# Altium footprint library New_Parts.PcbLib: 6 footprints
Each footprint in its own frame and in the unit in brackets; x right, y up, seen from the top. Pads: shape width x height; smd on the part's side, far side on the other; paste and mask are expansions set on the pad; w line width, h text height; cw(c..) or ccw(c..) is an arc to the next point about the centre after c.
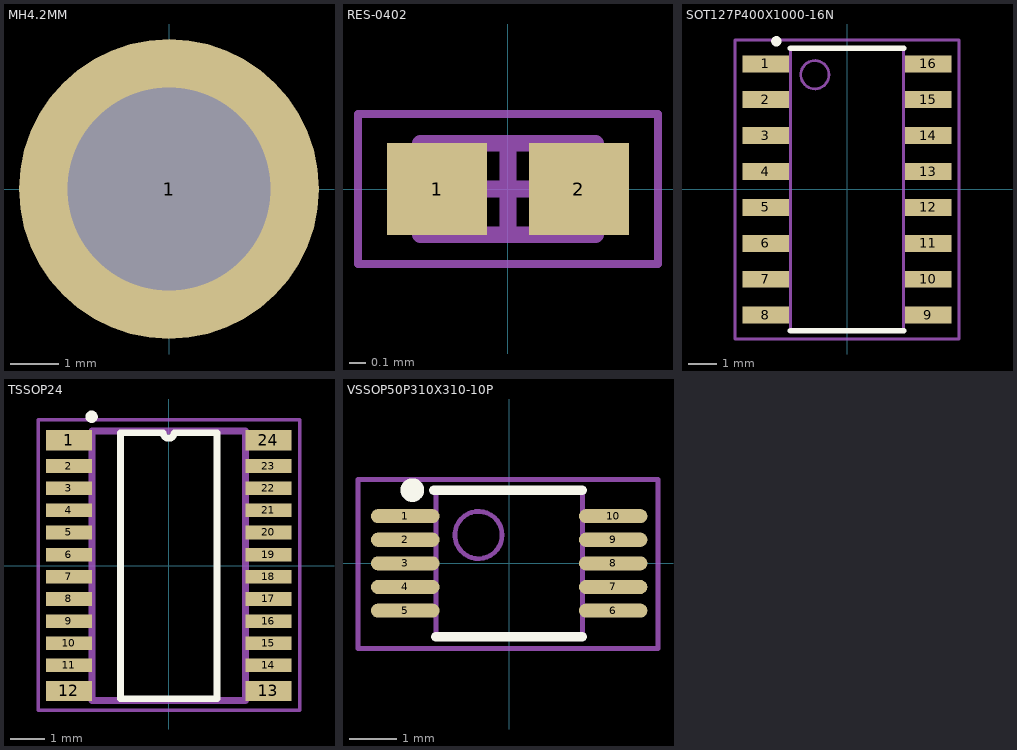
[diagram p0: the footprints below, top view; thin cyan lines are the x and y axes]

## MH4.2MM [mm] "Mounting Hole, 4.2mm"
pads (1):
  round 6.2 hole 4.2: 1(0,0)

## PCBComponent_1 [mm]

## RES-0402 [mm] "Chip Resistor, 2-Leads, Body 1.00x0.50mm, IPC Medium Density"
height 0.4
pads (2):
  rect 0.6x0.55 smd: 1(-0.425,0) 2(0.425,0)
Mechanical 13:
  lines w0.1: -0.525,-0.275 -0.525,0.275 0.525,0.275 0.525,-0.275 -0.525,-0.275
Mechanical 15:
  lines w0.05: -0.9,-0.45 -0.9,0.45 0.9,0.45 0.9,-0.45 -0.9,-0.45
  lines w0.1: -0.275,0 0.275,0 ; 0,-0.275 0,0.275
3D body "RESC1005X04N.step": height 0.4, standoff 0, extent -0.525,-0.275 0.525,0.275

## SOT127P400X1000-16N [mm] "SOT109, 16-Leads, Body 4x10mm (max), Pitch 1.27mm, IPC Medium Density"
height 1.75
pads (16):
  rect 1.65x0.6 smd mask+0.07: 1(-2.875,4.445) 2(-2.875,3.175) 3(-2.875,1.905) 4(-2.875,0.635) 5(-2.875,-0.635) 6(-2.875,-1.905) 7(-2.875,-3.175) 8(-2.875,-4.445) 9(2.875,-4.445) 10(2.875,-3.175) 11(2.875,-1.905) 12(2.875,-0.635) 13(2.875,0.635) 14(2.875,1.905) 15(2.875,3.175) 16(2.875,4.445)
Top Overlay:
  circle w0.2: c-2.505,5.243 r0.08
  lines w0.2: -2,-5 2,-5 ; -2,5 2,5
Mechanical 13:
  circle w0.1: c-1.14,4.059 r0.5
  lines w0.1: -2,-5 -2,5 2,5 2,-5 -2,-5
Mechanical 15:
  lines w0.1: -3.96,-5.288 -3.96,5.285 3.952,5.285 3.952,-5.288 -3.96,-5.288
3D body: height 0.95, standoff 0.05, extent -2.01,-5 1.991,4.991

## TSSOP24 [mm]
pads (24):
  rect 1.35x0.6 smd: 1(-2.925,3.675) 12(-2.925,-3.675) 13(2.925,-3.675) 24(2.925,3.675)
  rect 1.35x0.4 smd: 2(-2.925,2.925) 3(-2.925,2.275) 4(-2.925,1.625) 5(-2.925,0.975) 6(-2.925,0.325) 7(-2.925,-0.325) 8(-2.925,-0.975) 9(-2.925,-1.625) 10(-2.925,-2.275) 11(-2.925,-2.925) 14(2.925,-2.925) 15(2.925,-2.275) 16(2.925,-1.625) 17(2.925,-0.975) 18(2.925,-0.325) 19(2.925,0.325) 20(2.925,0.975) 21(2.925,1.625) 22(2.925,2.275) 23(2.925,2.925)
Top Overlay:
  circle w0.2: c-2.261,4.371 r0.08
  lines w0.2: -1.415,-3.9 -1.415,3.9 -0.162,3.9 ccw(c0,3.9) 0.162,3.9 1.415,3.9 1.415,-3.9 -1.415,-3.9
Mechanical 13:
  lines w0.2: -2.25,-3.95 -2.25,3.95 2.25,3.95 2.25,-3.95 -2.25,-3.95
Mechanical 15:
  lines w0.1: -3.828,-4.239 -3.828,4.281 3.846,4.281 3.846,-4.239 -3.828,-4.239
3D body: height 1.1, standoff 0.1, extent -2.25,-3.95 2.25,3.95

## VSSOP50P310X310-10P [mm] "VSSOP, 10-Leads, Body 3.1x3.1mm (max), Pitch 0.50mm, IPC Low Density"
height 1.1
pads (10):
  oval 1.45x0.3 smd: 1(-2.2,1) 2(-2.2,0.5) 3(-2.2,0) 4(-2.2,-0.5) 5(-2.2,-1) 6(2.2,-1) 7(2.2,-0.5) 8(2.2,0) 9(2.2,0.5) 10(2.2,1)
Top Overlay:
  circle w0.25: c-2.05,1.55 r0.125
  lines w0.2: -1.6,1.55 1.55,1.55 ; -1.55,-1.55 1.55,-1.55
Mechanical 13:
  circle w0.1: c-0.65,0.6 r0.5
  lines w0.1: -1.55,-1.55 1.55,-1.55 1.55,1.55 -1.55,1.55 -1.55,-1.55
Mechanical 15:
  lines w0.1: -3.2,-1.8 3.15,-1.8 3.15,1.773 -3.2,1.773 -3.2,-1.8
3D body: height 1.1, standoff 0.1, extent -1.55,-1.55 1.55,1.55